# Altium integrated library WE-PF_rev15a.intlib: 9 symbols
Pins are listed as number, name and electrical type; pins without a type are passive.

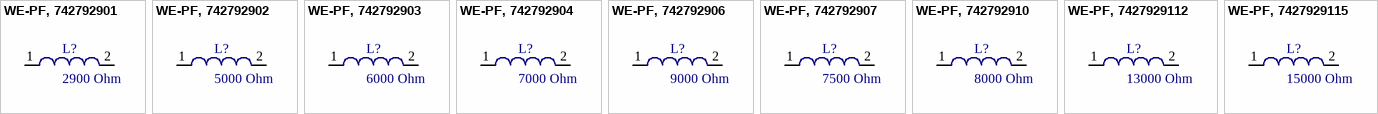
[diagram p0: symbols WE-PF, 742792901 to WE-PF, 7427929115]

## WE-PF, 742792901
designator L?, comment 2900 Ohm
SMD EMI Suppression Power Ferrite WE-PF, Z= 2900 Ohm; partNo: 742792901; Manufacturer: Würth Elektronik eiSos GmbH; Impedance: 2900 Ohm; ComponentLink1Description: Manufacturer; ComponentLink1URL: http://www.we-online.de; Created by: Christin Zierenner; Created Date: May 2009; ComponentLink2Description: Datasheet; ComponentLink2URL: http://www.we-online.de/katalog/media/pdf/742792901.pdf
footprint WE-PF (Inductor, 2-Leads, Body 12,0x12,0mm)
pins: 1, 2

## WE-PF, 742792902
designator L?, comment 5000 Ohm
SMD EMI Suppression Power Ferrite WE-PF, Z= 5000 Ohm; partNo: 742792902; Manufacturer: Würth Elektronik eiSos GmbH; Impedance: 5000 Ohm; ComponentLink1Description: Manufacturer; ComponentLink1URL: http://www.we-online.de; Created by: Christin Zierenner; Created Date: May 2009; ComponentLink2Description: Datasheet; ComponentLink2URL: http://www.we-online.de/katalog/media/pdf/742792902.pdf
footprint WE-PF (Inductor, 2-Leads, Body 12,0x12,0mm)
pins: 1, 2

## WE-PF, 742792903
designator L?, comment 6000 Ohm
SMD EMI Suppression Power Ferrite WE-PF, Z= 6000 Ohm; partNo: 742792903; Manufacturer: Würth Elektronik eiSos GmbH; Impedance: 6000 Ohm; ComponentLink1Description: Manufacturer; ComponentLink1URL: http://www.we-online.de; Created by: Christin Zierenner; Created Date: May 2009; ComponentLink2Description: Datasheet; ComponentLink2URL: http://www.we-online.de/katalog/media/pdf/742792903.pdf
footprint WE-PF (Inductor, 2-Leads, Body 12,0x12,0mm)
pins: 1, 2

## WE-PF, 742792904
designator L?, comment 7000 Ohm
SMD EMI Suppression Power Ferrite WE-PF, Z= 7000 Ohm; partNo: 742792904; Manufacturer: Würth Elektronik eiSos GmbH; Impedance: 7000 Ohm; ComponentLink1Description: Manufacturer; ComponentLink1URL: http://www.we-online.de; Created by: Christin Zierenner; Created Date: May 2009; ComponentLink2Description: Datasheet; ComponentLink2URL: http://www.we-online.de/katalog/media/pdf/742792904.pdf
footprint WE-PF (Inductor, 2-Leads, Body 12,0x12,0mm)
pins: 1, 2

## WE-PF, 742792906
designator L?, comment 9000 Ohm
SMD EMI Suppression Power Ferrite WE-PF, Z= 9000 Ohm; partNo: 742792906; Manufacturer: Würth Elektronik eiSos GmbH; Impedance: 9000 Ohm; ComponentLink1Description: Manufacturer; ComponentLink1URL: http://www.we-online.de; Created by: Christin Zierenner; Created Date: May 2009; ComponentLink2Description: Datasheet; ComponentLink2URL: http://www.we-online.de/katalog/media/pdf/742792906.pdf
footprint WE-PF (Inductor, 2-Leads, Body 12,0x12,0mm)
pins: 1, 2

## WE-PF, 742792907
designator L?, comment 7500 Ohm
SMD EMI Suppression Power Ferrite WE-PF, Z= 7500 Ohm; partNo: 742792907; Manufacturer: Würth Elektronik eiSos GmbH; Impedance: 7500 Ohm; ComponentLink1Description: Manufacturer; ComponentLink1URL: http://www.we-online.de; Created by: Christin Zierenner; Created Date: May 2009; ComponentLink2Description: Datasheet; ComponentLink2URL: http://www.we-online.de/katalog/media/pdf/742792907.pdf
footprint WE-PF (Inductor, 2-Leads, Body 12,0x12,0mm)
pins: 1, 2

## WE-PF, 742792910
designator L?, comment 8000 Ohm
SMD EMI Suppression Power Ferrite WE-PF, Z= 8000 Ohm; partNo: 742792910; Manufacturer: Würth Elektronik eiSos GmbH; Impedance: 8000 Ohm; ComponentLink1Description: Manufacturer; ComponentLink1URL: http://www.we-online.de; Created by: Christin Zierenner; Created Date: May 2009; ComponentLink2Description: Datasheet; ComponentLink2URL: http://www.we-online.de/katalog/media/pdf/742792910.pdf
footprint WE-PF (Inductor, 2-Leads, Body 12,0x12,0mm)
pins: 1, 2

## WE-PF, 7427929112
designator L?, comment 13000 Ohm
SMD EMI Suppression Power Ferrite WE-PF, Z= 13000 Ohm; partNo: 7427929112; Manufacturer: Würth Elektronik eiSos GmbH; Impedance: 13000 Ohm; ComponentLink1Description: Manufacturer; ComponentLink1URL: http://www.we-online.de; Created by: Christin Zierenner; Created Date: May 2009; ComponentLink2Description: Datasheet; ComponentLink2URL: http://www.we-online.de/katalog/media/pdf/7427929112.pdf
footprint WE-PF (Inductor, 2-Leads, Body 12,0x12,0mm)
pins: 1, 2

## WE-PF, 7427929115
designator L?, comment 15000 Ohm
SMD EMI Suppression Power Ferrite WE-PF, Z= 15000 Ohm; partNo: 7427929115; Manufacturer: Würth Elektronik eiSos GmbH; Impedance: 15000 Ohm; ComponentLink1Description: Manufacturer; ComponentLink1URL: http://www.we-online.de; Created by: Christin Zierenner; Created Date: May 2009; ComponentLink2Description: Datasheet; ComponentLink2URL: http://www.we-online.de/katalog/media/pdf/7427929115.pdf
footprint WE-PF (Inductor, 2-Leads, Body 12,0x12,0mm)
pins: 1, 2